# Altium footprint library PcbLib1.PcbLib: 2 footprints
Each footprint in its own frame and in the unit in brackets; x right, y up, seen from the top. Pads: shape width x height; smd on the part's side, far side on the other; paste and mask are expansions set on the pad; w line width, h text height; cw(c..) or ccw(c..) is an arc to the next point about the centre after c.
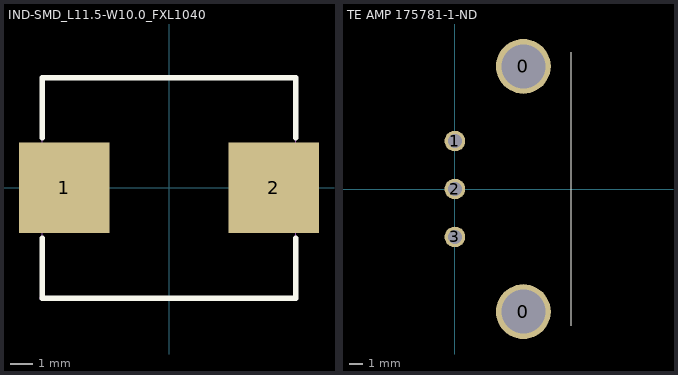
[diagram p0: the footprints below, top view; thin cyan lines are the x and y axes]

## IND-SMD_L11.5-W10.0_FXL1040 [mil]
pads (2):
  rect 161.4x161.4 smd mask+2: 1(-187,0) 2(187,0)
Top Overlay:
  lines w10: -226.4,-89.8 -226.4,-196.8 226.4,-196.9 226.4,-89.8 ; -226.4,89.8 -226.4,196.9 226.4,196.9 226.4,89.8
Mechanical 15:
  region: -222.5,-196.8 -222.5,-195.18 -224.78,-192.9 -228.02,-192.9 -230.3,-195.18 -230.3,-196.8 -230.3,-198.42 -228.02,-200.7 -224.78,-200.7 -222.5,-198.42 -222.5,-196.8
  region: -226.4,-59.1 -226.4,59.1 -147.6,59.1 -147.6,-59.1
  region: 147.6,-59.1 147.6,59.1 226.4,59.1 226.4,-59.1
  lines w2: -226.4,-196.8 226.4,-196.8 226.4,196.9 -226.4,196.9 -226.4,-196.8

## TE AMP 175781-1-ND [mm]
pads (5):
  round 4 hole 3.2: 0(5,-8.95) 0(5,8.95)
  round 1.5 hole 1: 1(0,3.5) 2(0,0) 3(0,-3.5)
Top Overlay:
  lines w0.01: 8.5,-10 8.5,10
3D body "175781-1--3DModel-STEP-1.STEP": height 12.55, standoff -3.99, extent -0.311,-12.157 20.009,12.143